# Altium footprint library PCB - CONNECTOR - SAMTEC HTSS-110-01-L-DV.PcbLib: 1 footprints
Each footprint in its own frame and in the unit in brackets; x right, y up, seen from the top. Pads: shape width x height; smd on the part's side, far side on the other; paste and mask are expansions set on the pad; w line width, h text height; cw(c..) or ccw(c..) is an arc to the next point about the centre after c.
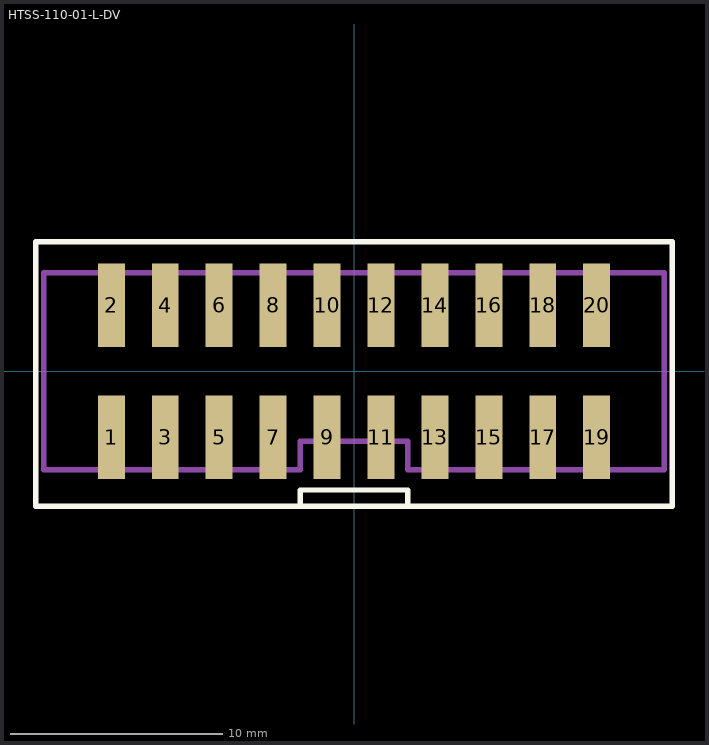
[diagram p0: the footprint, top view; thin cyan lines are the x and y axes]

## HTSS-110-01-L-DV [mil]
pads (20):
  rect 50x155 smd mask+2: 1(-450,-122.5) 2(-450,122.5) 3(-350,-122.5) 4(-350,122.5) 5(-250,-122.5) 6(-250,122.5) 7(-150,-122.5) 8(-150,122.5) 9(-50,-122.5) 10(-50,122.5) 11(50,-122.5) 12(50,122.5) 13(150,-122.5) 14(150,122.5) 15(250,-122.5) 16(250,122.5) 17(350,-122.5) 18(350,122.5) 19(450,-122.5) 20(450,122.5)
Top Overlay:
  lines w10: -100,-250 -100,-220 100,-220 100,-250 ; -590,-250 -590,240 590,240 590,-250 -590,-250
M5 Assembly Top:
  lines w10: -575.03,182.48 -575,-182.48 -100,-182.48 ; -575,182.48 575,182.48 575,-182.48 100,-182.48 ; -100,-182.23 -100,-130 100,-130 100,-182.23
  text ".Designator" at -78.74,-30.51 h60
3D body "HTSS-110-01-L-DV.stp": height 400, standoff 0, extent -575,-220 575,220